# Altium schematic symbol library Connectors.SchLib: 84 symbols (part 3 of 3)
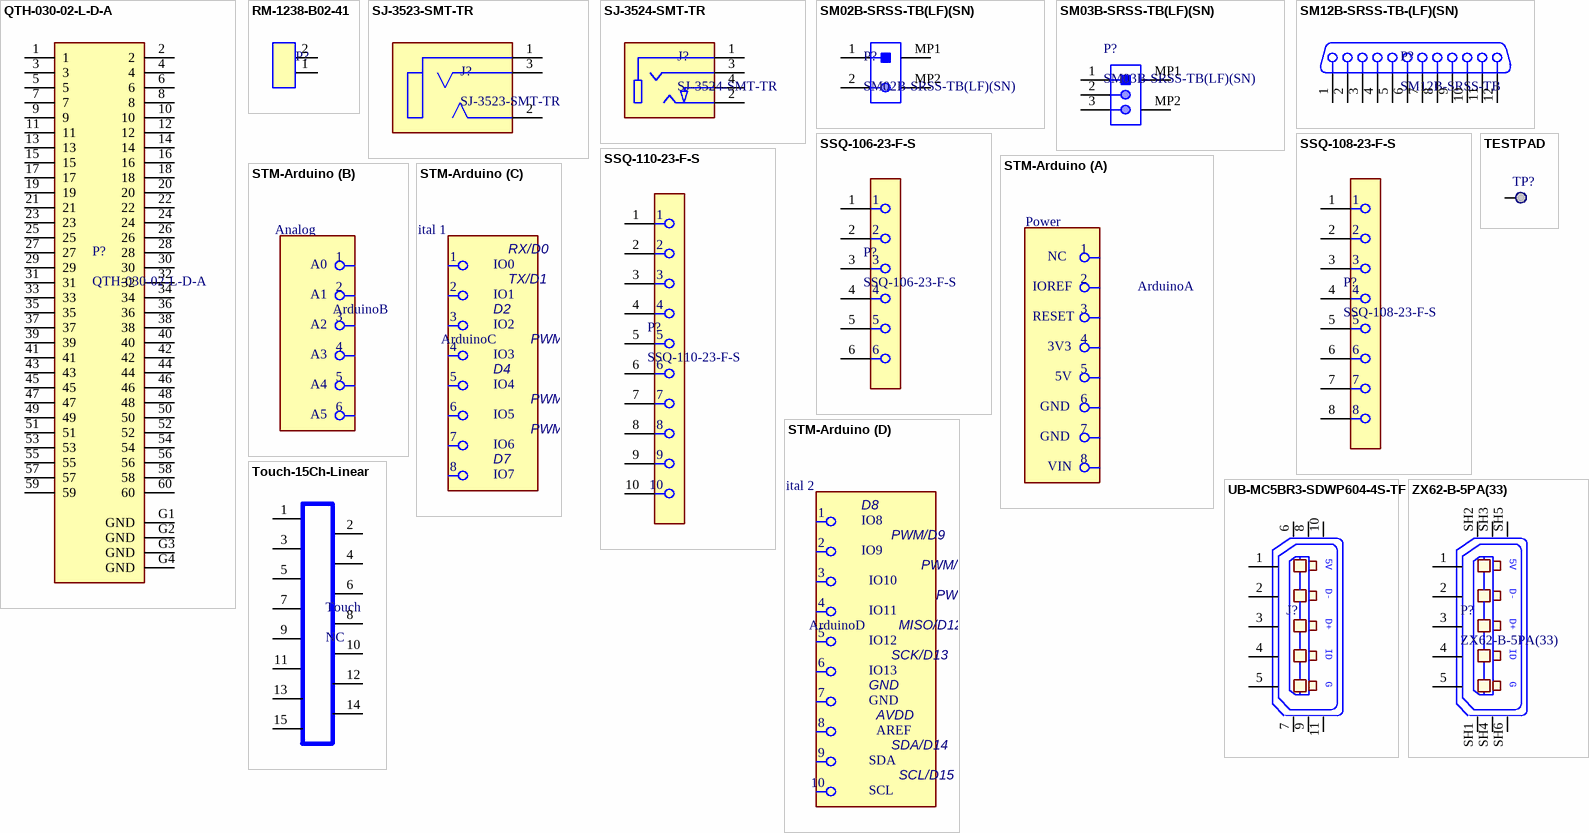
[diagram p5: symbols QTH-030-02-L-D-A to ZX62-B-5PA(33)]

## SJ-3523-SMT-TR
designator J?
3.5 mm, Stereo, Right Angle, Surface Mount (SMT), Audio Jack Connector; Manufacturer: Same Sky; Contact Resistance: 50mΩ; Current Rating: 1A; Gender: Female; Insulation Resistance: 100MΩ; Number of Conductors: 3; Number of Ports: 1; Operating Force: 29.42N; Shielding: Unshielded; Voltage Rating: 12V; Supplier: Arrow Electronics; Supplier Part Number: SJ-3523-SMT-TR; Manufacturer Part Number: SJ-3523-SMT-TR; RoHS: Compliant; Category: Audio / Video Connectors; Stock: 17000; Pricing: 1000=0.5024, 2000=0.4778, 3000=0.4729, 5000=0.4514 (USD); Color: Black; Contact Plating: Silver; Country of Origin: Mainland China; Export Control Classification Number (ECCN) Code: EAR99; Harmonized Tariff Schedule (HTS) Code: 8536.69.40.10; Introduction Date: 2012-12-10; Lifecycle Status: Production; Max Operating Temperature: 85°C; Min Operating Temperature: -25°C; Mounting Technology: Surface Mount; Pins: 3; Number of Poles: 3; Orientation: Horizontal; REACH SVHC: Yes; ComponentLink1URL: https://datasheet.octopart.com:443/SJ-3523-SMT-TR-Same-Sky-datasheet-184712297.pdf?src-supplier=Same+Sky; ComponentLink1Description: https://datasheet.octopart.com:443/SJ-3523-SMT-TR-Same-Sky-datasheet-184712297.pdf?src-supplier=Same+Sky; ComponentLink2URL: https://datasheet.octopart.com:443/SJ-3523-SMT-TR-Same-Sky-datasheet-181919261.pdf?src-supplier=Same+Sky; ComponentLink2Description: https://datasheet.octopart.com:443/SJ-3523-SMT-TR-Same-Sky-datasheet-181919261.pdf?src-supplier=Same+Sky; ComponentLink3URL: https://datasheet.octopart.com:443/SJ-3523-SMT-TR-Same-Sky-datasheet-181919260.pdf?src-supplier=Same+Sky; ComponentLink3Description: https://datasheet.octopart.com:443/SJ-3523-SMT-TR-Same-Sky-datasheet-181919260.pdf?src-supplier=Same+Sky; ComponentLink4URL: https://datasheet.octopart.com:443/SJ-3523-SMT-TR-CUI-Devices-datasheet-175925013.pdf?src-supplier=Same+Sky; ComponentLink4Description: https://datasheet.octopart.com:443/SJ-3523-SMT-TR-CUI-Devices-datasheet-175925013.pdf?src-supplier=Same+Sky; ComponentLink5URL: https://datasheet.octopart.com:443/SJ-3523-SMT-TR-CUI-Devices-datasheet-137943667.pdf?src-supplier=Same+Sky; ComponentLink5Description: https://datasheet.octopart.com:443/SJ-3523-SMT-TR-CUI-Devices-datasheet-137943667.pdf?src-supplier=Same+Sky; ComponentLink6URL: https://datasheet.octopart.com:443/SJ-3523-SMT-TR-CUI-Devices-datasheet-180438029.pdf?src-supplier=IHS; ComponentLink6Description: https://datasheet.octopart.com:443/SJ-3523-SMT-TR-CUI-Devices-datasheet-180438029.pdf?src-supplier=IHS; ComponentLink7URL: https://datasheet.octopart.com:443/SJ-3523-SMT-TR-Same-Sky-datasheet-190142034.pdf?src-supplier=element14+APAC; ComponentLink7Description: https://datasheet.octopart.com:443/SJ-3523-SMT-TR-Same-Sky-datasheet-190142034.pdf?src-supplier=element14+APAC; ComponentLink8URL: https://datasheet.octopart.com:443/SJ-3523-SMT-TR-Same-Sky-datasheet-182881268.pdf?src-supplier=Electro+Sonic; ComponentLink8Description: https://datasheet.octopart.com:443/SJ-3523-SMT-TR-Same-Sky-datasheet-182881268.pdf?src-supplier=Electro+Sonic; ComponentLink9URL: https://datasheet.octopart.com:443/SJ-3523-SMT-TR-CUI-Devices-datasheet-103113656.pdf?src-supplier=Master+Electronics; ComponentLink9Description: https://datasheet.octopart.com:443/SJ-3523-SMT-TR-CUI-Devices-datasheet-103113656.pdf?src-supplier=Master+Electronics; ComponentLink10URL: https://datasheet.octopart.com:443/SJ-3523-SMT-TR-Same-Sky-datasheet-189105583.pdf?src-supplier=Master+Electronics; ComponentLink10Description: https://datasheet.octopart.com:443/SJ-3523-SMT-TR-Same-Sky-datasheet-189105583.pdf?src-supplier=Master+Electronics; ComponentLink11URL: https://datasheet.octopart.com:443/SJ-3523-SMT-TR-Same-Sky-datasheet-182050123.pdf?src-supplier=Future+Electronics; ComponentLink11Description: https://datasheet.octopart.com:443/SJ-3523-SMT-TR-Same-Sky-datasheet-182050123.pdf?src-supplier=Future+Electronics; ComponentLink12URL: https://datasheet.octopart.com:443/SJ-3523-SMT-TR-Same-Sky-datasheet-182050122.pdf?src-supplier=Future+Electronics; ComponentLink12Description: https://datasheet.octopart.com:443/SJ-3523-SMT-TR-Same-Sky-datasheet-182050122.pdf?src-supplier=Future+Electronics; ComponentLink13URL: https://datasheet.octopart.com:443/SJ-3523-SMT-TR-CUI-Devices-datasheet-175928795.pdf?src-supplier=Future+Electronics; ComponentLink13Description: https://datasheet.octopart.com:443/SJ-3523-SMT-TR-CUI-Devices-datasheet-175928795.pdf?src-supplier=Future+Electronics; ComponentLink14URL: https://datasheet.octopart.com:443/SJ-3523-SMT-TR-CUI-Devices-datasheet-175923651.pdf?src-supplier=Future+Electronics; ComponentLink14Description: https://datasheet.octopart.com:443/SJ-3523-SMT-TR-CUI-Devices-datasheet-175923651.pdf?src-supplier=Future+Electronics; ComponentLink15URL: https://datasheet.octopart.com:443/SJ-3523-SMT-TR-CUI-Devices-datasheet-152599919.pdf?src-supplier=Future+Electronics; ComponentLink15Description: https://datasheet.octopart.com:443/SJ-3523-SMT-TR-CUI-Devices-datasheet-152599919.pdf?src-supplier=Future+Electronics; ComponentLink16URL: https://datasheet.octopart.com:443/SJ-3523-SMT-TR-CUI-Devices-datasheet-137916561.pdf?src-supplier=Future+Electronics; ComponentLink16Description: https://datasheet.octopart.com:443/SJ-3523-SMT-TR-CUI-Devices-datasheet-137916561.pdf?src-supplier=Future+Electronics; ComponentLink17URL: https://datasheet.octopart.com:443/SJ-3523-SMT-TR-CUI-Devices-datasheet-175927840.pdf?src-supplier=CUI+Devices+SCT; ComponentLink17Description: https://datasheet.octopart.com:443/SJ-3523-SMT-TR-CUI-Devices-datasheet-175927840.pdf?src-supplier=CUI+Devices+SCT; ComponentLink18URL: https://datasheet.octopart.com:443/SJ-3523-SMT-TR-CUI-Devices-datasheet-142371491.pdf?src-supplier=CUI+Devices+SCT; ComponentLink18Description: https://datasheet.octopart.com:443/SJ-3523-SMT-TR-CUI-Devices-datasheet-142371491.pdf?src-supplier=CUI+Devices+SCT; ComponentLink19URL: https://octopart.com:443/opatz8j6/c1?t=3PixFKwt_1lrE2SnjMso3c4BVeObRI8f6D5FxVl1cXWOTqek18AVYC7IZ1FL1637bT5PFzlVrdQdUmFeX7jbVRN48ywcgzzbU4FW3uDxr7BRmLvuVaEu9_SOHG86Z2j6sJM2TfYS5MNOuxudwacUDrD9nJER0h5-StWa_e9lHCJkn4gEHbM78ErUpa8D0epOE2LnfBge76ETJW9h0B65ohVP6OeqmKQk7yYCczWU6-DAvtWE5Vj2sPgk-AY3lGde1n2RdIulmK3YGP0vhvrCbaCONCVwzYZnvHBIWPko0TsAK1j6MxTwAX73VKRztHuM_uh-uXI3fMt71fqmTGC1wZwLSji6FG01zr8jaIqzOug&src-supplier=Compliance+Statements; ComponentLink19Description: https://octopart.com:443/opatz8j6/c1?t=3PixFKwt_1lrE2SnjMso3c4BVeObRI8f6D5FxVl1cXWOTqek18AVYC7IZ1FL1637bT5PFzlVrdQdUmFeX7jbVRN48ywcgzzbU4FW3uDxr7BRmLvuVaEu9_SOHG86Z2j6sJM2TfYS5MNOuxudwacUDrD9nJER0h5-StWa_e9lHCJkn4gEHbM78ErUpa8D0epOE2LnfBge76ETJW9h0B65ohVP6OeqmKQk7yYCczWU6-DAvtWE5Vj2sPgk-AY3lGde1n2RdIulmK3YGP0vhvrCbaCONCVwzYZnvHBIWPko0TsAK1j6MxTwAX73VKRztHuM_uh-uXI3fMt71fqmTGC1wZwLSji6FG01zr8jaIqzOug&src-supplier=Compliance+Statements; ComponentLink20URL: https://octopart.com:443/opatz8j6/c1?t=ai7bXhnjmMBEpxF7yOEe6Xfv4mqwzw6wzAr3FSSG_3L3nF4IVUtqvsc9-8wCROT2wlq_fvywwanVu2GiQjSepz1JcSnrUWeDau0KJCpCqgyC1PUQ5i5k8IPngeY-vrE9FIifCN1ZpQ9b9hR00iu6UqlxbnO2OPF9P3hNaV5UAxJnOYiIPQNrQ7LSnV0SCobpYMgazKQgjHUtbwXbf7UEksvvmAPVYT0hoNr9wbl4YyxwtjtJTa7Jru0ElOLW14YgX1KlK2bSGAxYZcsGXg3tK9AnDuSoAYeagsaPozgu3NzMuNInD-xefX6F9jKARGROwkgVkAuZmxbndG4XKsEodvgDSovgmtUTiMAlIkDOXlQ&src-supplier=Compliance+Statements; ComponentLink20Description: https://octopart.com:443/opatz8j6/c1?t=ai7bXhnjmMBEpxF7yOEe6Xfv4mqwzw6wzAr3FSSG_3L3nF4IVUtqvsc9-8wCROT2wlq_fvywwanVu2GiQjSepz1JcSnrUWeDau0KJCpCqgyC1PUQ5i5k8IPngeY-vrE9FIifCN1ZpQ9b9hR00iu6UqlxbnO2OPF9P3hNaV5UAxJnOYiIPQNrQ7LSnV0SCobpYMgazKQgjHUtbwXbf7UEksvvmAPVYT0hoNr9wbl4YyxwtjtJTa7Jru0ElOLW14YgX1KlK2bSGAxYZcsGXg3tK9AnDuSoAYeagsaPozgu3NzMuNInD-xefX6F9jKARGROwkgVkAuZmxbndG4XKsEodvgDSovgmtUTiMAlIkDOXlQ&src-supplier=Compliance+Statements; ComponentLink21URL: https://octopart.com:443/opatz8j6/c1?t=B7x7IRfzV-wjzKXnVKaZ_nyZReDvgSS9ZWZ3X0VROBqDI4TWdDh2uPhp-_k8ZDAd-a7cutHDCjIuprJYcIAX8HbML_1LLFmwoDhfwCIij1Ht6x5fbBwApeOy_rZLR9YLIQomFhzjtjb_6IkdnlL8Xc8PsE3jxQYBZ9lPFEq5WREXMNDXaRSifi2TzRow5T1NrCCQuzyCqgbAjFR1fYN2QeTNR9CTAQhGTvc5Z-xQUKo4cjjfbVQfyZZbQ_JJC8dp5o6XWgtLM0OH6Ju8R0luesl__RdKFgqeb5UUKtjR1jWbVXI1fKc4EynbZApsOWPsuvQMB3BD9kjvx5Eimw2di4EsSZnSi-CxKI1y-Q&src-supplier=Compliance+Statements; ComponentLink21Description: https://octopart.com:443/opatz8j6/c1?t=B7x7IRfzV-wjzKXnVKaZ_nyZReDvgSS9ZWZ3X0VROBqDI4TWdDh2uPhp-_k8ZDAd-a7cutHDCjIuprJYcIAX8HbML_1LLFmwoDhfwCIij1Ht6x5fbBwApeOy_rZLR9YLIQomFhzjtjb_6IkdnlL8Xc8PsE3jxQYBZ9lPFEq5WREXMNDXaRSifi2TzRow5T1NrCCQuzyCqgbAjFR1fYN2QeTNR9CTAQhGTvc5Z-xQUKo4cjjfbVQfyZZbQ_JJC8dp5o6XWgtLM0OH6Ju8R0luesl__RdKFgqeb5UUKtjR1jWbVXI1fKc4EynbZApsOWPsuvQMB3BD9kjvx5Eimw2di4EsSZnSi-CxKI1y-Q&src-supplier=Compliance+Statements; ComponentLink22URL: https://octopart.com:443/opatz8j6/c1?t=8GXU5cg_WYHLZTi-wsh0RP4oeS6gjV8h7QEKpypclDDKDNmCFT9u-iJkEwsIVIBO_f2OcH2onM5bKDpSwTEJ6zuXyy3b76HNnJkD_bJ5ppUfrqsRrMzP3E8PjDYvGTRlMSNw-Rk6GN0xh1kI60paopRK7jwd7qehhzTFTqq4tHmxqxekueD6r62VKpcWMn-OJA9wnLMtl-nR3zJ27_MNWNF9abV9EfP_7lvvVAzPv42-T6kH9yOf_FtpH6pLHEBJGap6uB2mhL64re8hSj4edA9lC6__-6ZWBO968_lAqt0vaCe3ilro4z3M1cZ9JnqJVq4ZzJCaPK1bjTAbrsqY5CF0XyB4oqUSV3_C60aT0Rc&src-supplier=Compliance+Statements; ComponentLink22Description: https://octopart.com:443/opatz8j6/c1?t=8GXU5cg_WYHLZTi-wsh0RP4oeS6gjV8h7QEKpypclDDKDNmCFT9u-iJkEwsIVIBO_f2OcH2onM5bKDpSwTEJ6zuXyy3b76HNnJkD_bJ5ppUfrqsRrMzP3E8PjDYvGTRlMSNw-Rk6GN0xh1kI60paopRK7jwd7qehhzTFTqq4tHmxqxekueD6r62VKpcWMn-OJA9wnLMtl-nR3zJ27_MNWNF9abV9EfP_7lvvVAzPv42-T6kH9yOf_FtpH6pLHEBJGap6uB2mhL64re8hSj4edA9lC6__-6ZWBO968_lAqt0vaCe3ilro4z3M1cZ9JnqJVq4ZzJCaPK1bjTAbrsqY5CF0XyB4oqUSV3_C60aT0Rc&src-supplier=Compliance+Statements; ComponentLink23URL: https://octopart.com:443/opatz8j6/c1?t=TeXrKz3Cft8xP10k9JrPdGv8P6l8dpPWA2RiV9wojFyZRPQ3tq_r5WAoiJ170aMYd1pqGePI8e9nEESvrP7LP1ZpEuf9FTtUsyS8PbsPPCSxT5WrgWv9g5gmygGHaoSQyYElHyciEigIP3R9RXj2cNeu5oYdq0yTK9j3df6L7iFe_2nUIN8GzuOcWfdvS38r2PKr06f8asKTrd_DlILqQpWRq4PSe4ihVLhpxBiuGFpatrRE3ur9Pj9gR6pLNsKN1zajlSqkyRt4yYeSq2xXA2Vf_XOxsVaJxi0XE58JIYo4t_sSfAI1Th81qnhgWs2lRXur0fLlQs5AoiDslqWTBcDhwQA0WJGDzWcSO-0rYfU&src-supplier=Compliance+Statements; ComponentLink23Description: https://octopart.com:443/opatz8j6/c1?t=TeXrKz3Cft8xP10k9JrPdGv8P6l8dpPWA2RiV9wojFyZRPQ3tq_r5WAoiJ170aMYd1pqGePI8e9nEESvrP7LP1ZpEuf9FTtUsyS8PbsPPCSxT5WrgWv9g5gmygGHaoSQyYElHyciEigIP3R9RXj2cNeu5oYdq0yTK9j3df6L7iFe_2nUIN8GzuOcWfdvS38r2PKr06f8asKTrd_DlILqQpWRq4PSe4ihVLhpxBiuGFpatrRE3ur9Pj9gR6pLNsKN1zajlSqkyRt4yYeSq2xXA2Vf_XOxsVaJxi0XE58JIYo4t_sSfAI1Th81qnhgWs2lRXur0fLlQs5AoiDslqWTBcDhwQA0WJGDzWcSO-0rYfU&src-supplier=Compliance+Statements; ComponentLink24URL: https://octopart.com:443/opatz8j6/c1?t=y_QQS9kX6p_jCXN32QY1C5YzrZIcxfXP-SWb-3wJ8iwhBTF_4rbd5a2oUK2u70O1M5s0WArmkCu-Jj3oA3Vbwu3jN45YH29CCcigLqRQIRlrnmxQjFkAdofCmwaRxElerDPcSmY_PBwpIpSTAgnVLOogN9zxN-gEMVmheJREUIiO8oTcfWEcVnxLkezimMHsqfleJJAa99efSn4GXHtiUeKguAtswDBQypLuq24NT8Fgji51Ir_lslOouqLorFR0a0okoN8JGq5aw67lppRbXlwNZ-c6aK5OHR9eZVUJRtN1XA97ZOw_tAT74A0fu_g4egJ53kBiBM00aBv__mv44pKfViCW_iPZbcurxw&src-supplier=Compliance+Statements; ComponentLink24Description: https://octopart.com:443/opatz8j6/c1?t=y_QQS9kX6p_jCXN32QY1C5YzrZIcxfXP-SWb-3wJ8iwhBTF_4rbd5a2oUK2u70O1M5s0WArmkCu-Jj3oA3Vbwu3jN45YH29CCcigLqRQIRlrnmxQjFkAdofCmwaRxElerDPcSmY_PBwpIpSTAgnVLOogN9zxN-gEMVmheJREUIiO8oTcfWEcVnxLkezimMHsqfleJJAa99efSn4GXHtiUeKguAtswDBQypLuq24NT8Fgji51Ir_lslOouqLorFR0a0okoN8JGq5aw67lppRbXlwNZ-c6aK5OHR9eZVUJRtN1XA97ZOw_tAT74A0fu_g4egJ53kBiBM00aBv__mv44pKfViCW_iPZbcurxw&src-supplier=Compliance+Statements
footprint CUI_SJ-3523-SMT-TR
pins: 1 SLEEVE, 2 TIP, 3 RING

## SJ-3524-SMT-TR
designator J?
3.5 mm, Stereo, Right Angle, Surface Mount (SMT), Audio Jack Connector; Manufacturer: Same Sky; Contact Resistance: 50mΩ; Current Rating: 1A; Dielectric Material: Polyamide; Gender: Female; Insulation Resistance: 100MΩ; Number of Conductors: 3; Number of Ports: 1; Operating Force: 29.42N; Shielding: Unshielded; Voltage Rating: 12V; Supplier: Arrow Electronics; Supplier Part Number: SJ-3524-SMT-TR; Manufacturer Part Number: SJ-3524-SMT-TR; RoHS: Compliant; Category: Audio / Video Connectors; Stock: 47000; Pricing: 1000=0.4711, 2000=0.4487 (USD); Color: Black; Contact Plating: Silver; Country of Origin: Mainland China; Export Control Classification Number (ECCN) Code: EAR99; Harmonized Tariff Schedule (HTS) Code: 8536.69.40.10; Introduction Date: 2012-12-10; Lifecycle Status: Production; Max Operating Temperature: 85°C; Min Operating Temperature: -25°C; Mounting Technology: Surface Mount; Pins: 3; Number of Poles: 3; Orientation: Horizontal; REACH SVHC: Yes; ComponentLink1URL: https://datasheet.octopart.com:443/SJ-3524-SMT-TR-Same-Sky-datasheet-184712297.pdf?src-supplier=Same+Sky; ComponentLink1Description: https://datasheet.octopart.com:443/SJ-3524-SMT-TR-Same-Sky-datasheet-184712297.pdf?src-supplier=Same+Sky; ComponentLink2URL: https://datasheet.octopart.com:443/SJ-3524-SMT-TR-Same-Sky-datasheet-181919261.pdf?src-supplier=Same+Sky; ComponentLink2Description: https://datasheet.octopart.com:443/SJ-3524-SMT-TR-Same-Sky-datasheet-181919261.pdf?src-supplier=Same+Sky; ComponentLink3URL: https://datasheet.octopart.com:443/SJ-3524-SMT-TR-Same-Sky-datasheet-181919260.pdf?src-supplier=Same+Sky; ComponentLink3Description: https://datasheet.octopart.com:443/SJ-3524-SMT-TR-Same-Sky-datasheet-181919260.pdf?src-supplier=Same+Sky; ComponentLink4URL: https://datasheet.octopart.com:443/SJ-3524-SMT-TR-CUI-Devices-datasheet-175925013.pdf?src-supplier=Same+Sky; ComponentLink4Description: https://datasheet.octopart.com:443/SJ-3524-SMT-TR-CUI-Devices-datasheet-175925013.pdf?src-supplier=Same+Sky; ComponentLink5URL: https://datasheet.octopart.com:443/SJ-3524-SMT-TR-CUI-Devices-datasheet-137943667.pdf?src-supplier=Same+Sky; ComponentLink5Description: https://datasheet.octopart.com:443/SJ-3524-SMT-TR-CUI-Devices-datasheet-137943667.pdf?src-supplier=Same+Sky; ComponentLink6URL: https://datasheet.octopart.com:443/SJ-3524-SMT-TR-CUI-Devices-datasheet-180438029.pdf?src-supplier=IHS; ComponentLink6Description: https://datasheet.octopart.com:443/SJ-3524-SMT-TR-CUI-Devices-datasheet-180438029.pdf?src-supplier=IHS; ComponentLink7URL: https://datasheet.octopart.com:443/SJ-3524-SMT-TR-Same-Sky-datasheet-190142034.pdf?src-supplier=element14+APAC; ComponentLink7Description: https://datasheet.octopart.com:443/SJ-3524-SMT-TR-Same-Sky-datasheet-190142034.pdf?src-supplier=element14+APAC; ComponentLink8URL: https://datasheet.octopart.com:443/SJ-3524-SMT-TR-Same-Sky-datasheet-182881268.pdf?src-supplier=Electro+Sonic; ComponentLink8Description: https://datasheet.octopart.com:443/SJ-3524-SMT-TR-Same-Sky-datasheet-182881268.pdf?src-supplier=Electro+Sonic; ComponentLink9URL: https://datasheet.octopart.com:443/SJ-3524-SMT-TR-CUI-Devices-datasheet-103113656.pdf?src-supplier=Master+Electronics; ComponentLink9Description: https://datasheet.octopart.com:443/SJ-3524-SMT-TR-CUI-Devices-datasheet-103113656.pdf?src-supplier=Master+Electronics; ComponentLink10URL: https://datasheet.octopart.com:443/SJ-3524-SMT-TR-Same-Sky-datasheet-189105583.pdf?src-supplier=Master+Electronics; ComponentLink10Description: https://datasheet.octopart.com:443/SJ-3524-SMT-TR-Same-Sky-datasheet-189105583.pdf?src-supplier=Master+Electronics; ComponentLink11URL: https://datasheet.octopart.com:443/SJ-3524-SMT-TR-Same-Sky-datasheet-182050123.pdf?src-supplier=Future+Electronics; ComponentLink11Description: https://datasheet.octopart.com:443/SJ-3524-SMT-TR-Same-Sky-datasheet-182050123.pdf?src-supplier=Future+Electronics; ComponentLink12URL: https://datasheet.octopart.com:443/SJ-3524-SMT-TR-Same-Sky-datasheet-182050122.pdf?src-supplier=Future+Electronics; ComponentLink12Description: https://datasheet.octopart.com:443/SJ-3524-SMT-TR-Same-Sky-datasheet-182050122.pdf?src-supplier=Future+Electronics; ComponentLink13URL: https://datasheet.octopart.com:443/SJ-3524-SMT-TR-CUI-Devices-datasheet-175928795.pdf?src-supplier=Future+Electronics; ComponentLink13Description: https://datasheet.octopart.com:443/SJ-3524-SMT-TR-CUI-Devices-datasheet-175928795.pdf?src-supplier=Future+Electronics; ComponentLink14URL: https://datasheet.octopart.com:443/SJ-3524-SMT-TR-CUI-Devices-datasheet-175923651.pdf?src-supplier=Future+Electronics; ComponentLink14Description: https://datasheet.octopart.com:443/SJ-3524-SMT-TR-CUI-Devices-datasheet-175923651.pdf?src-supplier=Future+Electronics; ComponentLink15URL: https://datasheet.octopart.com:443/SJ-3524-SMT-TR-CUI-Devices-datasheet-152599919.pdf?src-supplier=Future+Electronics; ComponentLink15Description: https://datasheet.octopart.com:443/SJ-3524-SMT-TR-CUI-Devices-datasheet-152599919.pdf?src-supplier=Future+Electronics; ComponentLink16URL: https://datasheet.octopart.com:443/SJ-3524-SMT-TR-CUI-Devices-datasheet-137916561.pdf?src-supplier=Future+Electronics; ComponentLink16Description: https://datasheet.octopart.com:443/SJ-3524-SMT-TR-CUI-Devices-datasheet-137916561.pdf?src-supplier=Future+Electronics; ComponentLink17URL: https://datasheet.octopart.com:443/SJ-3524-SMT-TR-CUI-Devices-datasheet-175927840.pdf?src-supplier=CUI+Devices+SCT; ComponentLink17Description: https://datasheet.octopart.com:443/SJ-3524-SMT-TR-CUI-Devices-datasheet-175927840.pdf?src-supplier=CUI+Devices+SCT; ComponentLink18URL: https://datasheet.octopart.com:443/SJ-3524-SMT-TR-CUI-Devices-datasheet-142371491.pdf?src-supplier=CUI+Devices+SCT; ComponentLink18Description: https://datasheet.octopart.com:443/SJ-3524-SMT-TR-CUI-Devices-datasheet-142371491.pdf?src-supplier=CUI+Devices+SCT; ComponentLink19URL: https://octopart.com:443/opatz8j6/c1?t=yOFwSlno1Gy1iEOHUbjo7Ybbu6J4ZPgxNJLPD9WwT1tuzUC7dicjZt5CxzDyT98LCQkXh1Z7UZdCw_kCJWuk2m-3nxPEp9uHTSaEhHQx0tFXUet7SrOs3pKHwsfWMBcXMGjcj53MXqaEKPkPUIN9Fc4-WJVpP8trluSCFTu0aP0U4RMF8rDJ6TH0nKJGEWkpju7U153RjrP1QVlBspX-YnttXTji0MhyP9QRwTSaZM99RIR5L42SToAz-Uv17BkRGCoaVvGGPD7q0-sxEm0lYoF0cP7fTKlBUQuIOXt0goN7CIXQc01xs8PxfP7sgF0PbovItJXbpPUXsTVa0ZiTBaamxwgmu4JYPPQNjajSQrI&src-supplier=Compliance+Statements; ComponentLink19Description: https://octopart.com:443/opatz8j6/c1?t=yOFwSlno1Gy1iEOHUbjo7Ybbu6J4ZPgxNJLPD9WwT1tuzUC7dicjZt5CxzDyT98LCQkXh1Z7UZdCw_kCJWuk2m-3nxPEp9uHTSaEhHQx0tFXUet7SrOs3pKHwsfWMBcXMGjcj53MXqaEKPkPUIN9Fc4-WJVpP8trluSCFTu0aP0U4RMF8rDJ6TH0nKJGEWkpju7U153RjrP1QVlBspX-YnttXTji0MhyP9QRwTSaZM99RIR5L42SToAz-Uv17BkRGCoaVvGGPD7q0-sxEm0lYoF0cP7fTKlBUQuIOXt0goN7CIXQc01xs8PxfP7sgF0PbovItJXbpPUXsTVa0ZiTBaamxwgmu4JYPPQNjajSQrI&src-supplier=Compliance+Statements; ComponentLink20URL: https://octopart.com:443/opatz8j6/c1?t=uNnoKwVeX1LhEEB_zUFRBeAQYQu9ISBy-W7tOzOc_RmfmrKW4xcZzJ2WewKYX0Xxl8ZMH72g5TeOICaMyFaurglqloMkiwvReWcyCPwlqY7rX5OUsZTnpZgbxH-rbVORqnTJc9QkSNRuEEipQ_cWPY3tFRvbjob5BKPGVDgsMPtYMVG3AqIwWCrXjWkPgyShsBkOqPWCXA9kmBlujFt1U8CxI7ia0jImbIaXawE_Ac6Hi-1vS-TMQ1Dh-1KeH7e-W8-pNc-CfDxYtDM6IKgSYlZXdWKhovzLQ6WUTkzmtPzMFlvE-aA4whwmiapQxsV_GDNHfkwfqsAKfucZvV7rm6dsVKmo7vy64-7KX4u71T8&src-supplier=Compliance+Statements; ComponentLink20Description: https://octopart.com:443/opatz8j6/c1?t=uNnoKwVeX1LhEEB_zUFRBeAQYQu9ISBy-W7tOzOc_RmfmrKW4xcZzJ2WewKYX0Xxl8ZMH72g5TeOICaMyFaurglqloMkiwvReWcyCPwlqY7rX5OUsZTnpZgbxH-rbVORqnTJc9QkSNRuEEipQ_cWPY3tFRvbjob5BKPGVDgsMPtYMVG3AqIwWCrXjWkPgyShsBkOqPWCXA9kmBlujFt1U8CxI7ia0jImbIaXawE_Ac6Hi-1vS-TMQ1Dh-1KeH7e-W8-pNc-CfDxYtDM6IKgSYlZXdWKhovzLQ6WUTkzmtPzMFlvE-aA4whwmiapQxsV_GDNHfkwfqsAKfucZvV7rm6dsVKmo7vy64-7KX4u71T8&src-supplier=Compliance+Statements; ComponentLink21URL: https://octopart.com:443/opatz8j6/c1?t=ifJJE652zqP2O_ako0sjKkPjbVH-RKSA3oWyLPwpx7AGqBRqqRaws_KobTHvtlUT6BhZ4FsjiSRRxOG3z-99eNpPROe0lXTpMnSMSIyQd3v7VT7rvEIDvJVXRxVK31rmq_ZM0nMITuXtUEM92FCn0xV9CSi-yd2F7PjQeDG55AAa1FD1qAUmfDDcOGbXdopGu2ZKrEXS6JGKSNIb3ZxRLX0BPxEZXLi0G8oYg8riRyYA8tuAo7vpONLU4Ptt47qfZov3OnZ-KBuk4MKSt_6mkNmiobRVspD_MYGe3V3Wc0korOd17zoqg9HPFP_tlaUpMhpdajr1c32FGMLRBpZwmy3fND6deeqA-aDt3Q&src-supplier=Compliance+Statements; ComponentLink21Description: https://octopart.com:443/opatz8j6/c1?t=ifJJE652zqP2O_ako0sjKkPjbVH-RKSA3oWyLPwpx7AGqBRqqRaws_KobTHvtlUT6BhZ4FsjiSRRxOG3z-99eNpPROe0lXTpMnSMSIyQd3v7VT7rvEIDvJVXRxVK31rmq_ZM0nMITuXtUEM92FCn0xV9CSi-yd2F7PjQeDG55AAa1FD1qAUmfDDcOGbXdopGu2ZKrEXS6JGKSNIb3ZxRLX0BPxEZXLi0G8oYg8riRyYA8tuAo7vpONLU4Ptt47qfZov3OnZ-KBuk4MKSt_6mkNmiobRVspD_MYGe3V3Wc0korOd17zoqg9HPFP_tlaUpMhpdajr1c32FGMLRBpZwmy3fND6deeqA-aDt3Q&src-supplier=Compliance+Statements; ComponentLink22URL: https://octopart.com:443/opatz8j6/c1?t=OlPZvnmD0Qu8C448fjYe0K0Kc-C-IgiETp7wZgIqCMbK7-ZEtdN95CWvQAro5kVhTKONd1TuLyOfE2fx07vEiRfR333rqqBcVtgXmKdld6c_H5IIvA-n3pfFczIT6T7ud_kmK4KA7ja_lEvWnYgCuHy2HbY-DlLpUkXA5dSwVni4TrxId0wRpUcvUDY4XANDdq3sSQlXLTXA17OK0prWGGPyfqGBCwm4jb2XLdlJU_H2C0MTMR-k7B1eFMLlP_jj6b_eepH9CK-diYOZS3zGhwW75BGHDWrrSxG0_yLe6_fK7nwGYOVlv8udl5HjRgrK-JgNyLaCw1M03UqgHIA3l5eeqAZyn8NCfUGhs2LeJ_g&src-supplier=Compliance+Statements; ComponentLink22Description: https://octopart.com:443/opatz8j6/c1?t=OlPZvnmD0Qu8C448fjYe0K0Kc-C-IgiETp7wZgIqCMbK7-ZEtdN95CWvQAro5kVhTKONd1TuLyOfE2fx07vEiRfR333rqqBcVtgXmKdld6c_H5IIvA-n3pfFczIT6T7ud_kmK4KA7ja_lEvWnYgCuHy2HbY-DlLpUkXA5dSwVni4TrxId0wRpUcvUDY4XANDdq3sSQlXLTXA17OK0prWGGPyfqGBCwm4jb2XLdlJU_H2C0MTMR-k7B1eFMLlP_jj6b_eepH9CK-diYOZS3zGhwW75BGHDWrrSxG0_yLe6_fK7nwGYOVlv8udl5HjRgrK-JgNyLaCw1M03UqgHIA3l5eeqAZyn8NCfUGhs2LeJ_g&src-supplier=Compliance+Statements; ComponentLink23URL: https://octopart.com:443/opatz8j6/c1?t=re6L0_J8zSZPToy6tpwx8l2wvMJ_6iwUrG9UMycMvYS4AZ0qpHcVyzN03WPTWB0GYwUQB7g-T9LPfCeZzs0gbpLMUlLQX9vSKne3huICVnNF1JoviP1YBHicOeml7NfGyf97JaJe1L7j36TzXJEGtAasajcJr99hVq6sJgO3gu5mTFKTAOykhX8RQB6genJ_usQ_jzteFW4TFZ4Ga-UfVmWXy5TMEIROcSF1KS-VtRtI7Yo2q8FDTaIv5YMKNCqZ-FGEnggVhbaKUaYX54hog2aMn9PAzFmCAE7EcdTY-PGhnyHaYGA6jJhEI-WasJJqIa3S6G8I658C8exCDxtd8PPCi791s4K7lsR10aJTblc&src-supplier=Compliance+Statements; ComponentLink23Description: https://octopart.com:443/opatz8j6/c1?t=re6L0_J8zSZPToy6tpwx8l2wvMJ_6iwUrG9UMycMvYS4AZ0qpHcVyzN03WPTWB0GYwUQB7g-T9LPfCeZzs0gbpLMUlLQX9vSKne3huICVnNF1JoviP1YBHicOeml7NfGyf97JaJe1L7j36TzXJEGtAasajcJr99hVq6sJgO3gu5mTFKTAOykhX8RQB6genJ_usQ_jzteFW4TFZ4Ga-UfVmWXy5TMEIROcSF1KS-VtRtI7Yo2q8FDTaIv5YMKNCqZ-FGEnggVhbaKUaYX54hog2aMn9PAzFmCAE7EcdTY-PGhnyHaYGA6jJhEI-WasJJqIa3S6G8I658C8exCDxtd8PPCi791s4K7lsR10aJTblc&src-supplier=Compliance+Statements; ComponentLink24URL: https://octopart.com:443/opatz8j6/c1?t=Q1_HOAH1xyG3mQbHQ3hbWWZ903fx3-aZa9LWKWAmG3yaOw2Rx7JstO0Zbr5BkutBpC4yolmNsUCdh5ZpX4HWCXJTe5aGeb6WInJWQRoXTJNPfJf6G-wn8tFgxIR5eTdawx9GKLHOL9uUFC0556nvHOLn05E1ovRt-kI6EuOCzRHYmCM7qx1dYgwm-Yww5-6lzXFDrXcw-CNYPcVEFfW7xMn3d_ekgPK_1hic_cC7g8eY1HGlynCM8K2S61LCaMcRl0y_5sSyCXROuxlU9_lpp8tO7SIIYZ-nYtOmOxkbUK0v5C7imYX5HjWyL0FO4r-z2jP3nGaIX88Qofuaefiipyhb6cGXMMgjpWLDKw&src-supplier=Compliance+Statements; ComponentLink24Description: https://octopart.com:443/opatz8j6/c1?t=Q1_HOAH1xyG3mQbHQ3hbWWZ903fx3-aZa9LWKWAmG3yaOw2Rx7JstO0Zbr5BkutBpC4yolmNsUCdh5ZpX4HWCXJTe5aGeb6WInJWQRoXTJNPfJf6G-wn8tFgxIR5eTdawx9GKLHOL9uUFC0556nvHOLn05E1ovRt-kI6EuOCzRHYmCM7qx1dYgwm-Yww5-6lzXFDrXcw-CNYPcVEFfW7xMn3d_ekgPK_1hic_cC7g8eY1HGlynCM8K2S61LCaMcRl0y_5sSyCXROuxlU9_lpp8tO7SIIYZ-nYtOmOxkbUK0v5C7imYX5HjWyL0FO4r-z2jP3nGaIX88Qofuaefiipyhb6cGXMMgjpWLDKw&src-supplier=Compliance+Statements
footprint CUI_SJ-3524-SMT
pins: 1, 2, 3, 4

## SM02B-SRSS-TB(LF)(SN)
designator P?
Connector Header, Side Entry, SR Series, 2 Position, 1.00mm, 50V, Surface Mount, Tin, Natural; Manufacturer: JST; Connector Type: Male Pin; Contact Resistance: 40mΩ; Current Rating: 1A; Dielectric Material: Polyamide; Insulation Resistance: 100MΩ; Number of Contacts: 2; Pitch: 1mm; Supplier: RS; Supplier Part Number: 5151490P; Manufacturer Part Number: SM02B-SRSS-TB(LF)(SN); RoHS: Compliant; Category: Headers and Wire Housings; Stock: 2610; Pricing: 10=0.425, 50=0.405, 250=0.331, 500=0.279, 1000=0.239 (EUR); China RoHS: Compliant; Color: Natural; Contact Gender: Male; Contact Material: Copper, Tin; Contact Plating: Tin; Country of Origin: Mainland China; Depth: 4.95mm; Export Control Classification Number (ECCN) Code: EAR99; Flammability Rating: UL94 V-0; Height: 2.9mm; Harmonized Tariff Schedule (HTS) Code: 8536.69.40.40; Introduction Date: 2009-02-11; Lead Free: Lead Free; Lead Pitch: 1mm; Length: 4mm; Lifecycle Status: Production; Material: Polyamide; Max Current Rating: 1A; Max Operating Temperature: 85°C; Max Voltage Rating (AC): 50V; Min Operating Temperature: -25°C; Mounting Technology: Surface Mount; Pins: 2; Number of Positions: 2; Number of Rows: 1; Packaging: Cut Tape; REACH SVHC: Yes; Schedule B: 8536694040; Terminal Pitch: 1mm; Termination: Solder; Voltage Rating: 50V; Voltage Rating (AC): 50V; ComponentLink1URL: https://datasheet.octopart.com:443/SM02B-SRSS-TB%28LF%29%28SN%29-JST-datasheet-12513377.pdf?src-supplier=Upverter; ComponentLink1Description: https://datasheet.octopart.com:443/SM02B-SRSS-TB%28LF%29%28SN%29-JST-datasheet-12513377.pdf?src-supplier=Upverter; ComponentLink2URL: https://datasheet.octopart.com:443/SM02B-SRSS-TB%28LF%29%28SN%29-JST-datasheet-152738602.pdf?src-supplier=Upverter; ComponentLink2Description: https://datasheet.octopart.com:443/SM02B-SRSS-TB%28LF%29%28SN%29-JST-datasheet-152738602.pdf?src-supplier=Upverter; ComponentLink3URL: https://datasheet.octopart.com:443/SM02B-SRSS-TB-%28LF%29%28SN%29-JST-datasheet-5322443.pdf?src-supplier=element14+APAC; ComponentLink3Description: https://datasheet.octopart.com:443/SM02B-SRSS-TB-%28LF%29%28SN%29-JST-datasheet-5322443.pdf?src-supplier=element14+APAC; ComponentLink4URL: https://datasheet.octopart.com:443/SM02B-SRSS-TB-%28LF%29%28SN%29-JST-datasheet-65849987.pdf?src-supplier=element14+APAC; ComponentLink4Description: https://datasheet.octopart.com:443/SM02B-SRSS-TB-%28LF%29%28SN%29-JST-datasheet-65849987.pdf?src-supplier=element14+APAC; ComponentLink5URL: https://datasheet.octopart.com:443/SM02B-SRSS-TB%28LF%29%28SN%29-JST-datasheet-12489618.pdf?src-supplier=Future+Electronics; ComponentLink5Description: https://datasheet.octopart.com:443/SM02B-SRSS-TB%28LF%29%28SN%29-JST-datasheet-12489618.pdf?src-supplier=Future+Electronics; ComponentLink6URL: https://datasheet.octopart.com:443/SM02B-SRSS-TB%28LF%29%28SN%29-JST-datasheet-12520110.pdf?src-supplier=Future+Electronics; ComponentLink6Description: https://datasheet.octopart.com:443/SM02B-SRSS-TB%28LF%29%28SN%29-JST-datasheet-12520110.pdf?src-supplier=Future+Electronics; ComponentLink7URL: https://datasheet.octopart.com:443/SM02B-SRSS-TB%28LF%29%28SN%29-JST-datasheet-8330955.pdf?src-supplier=Future+Electronics; ComponentLink7Description: https://datasheet.octopart.com:443/SM02B-SRSS-TB%28LF%29%28SN%29-JST-datasheet-8330955.pdf?src-supplier=Future+Electronics; ComponentLink8URL: https://datasheet.octopart.com:443/SM02B-SRSS-TB%28LF%29%28SN%29-JST-datasheet-120967.pdf?src-supplier=Future+Electronics; ComponentLink8Description: https://datasheet.octopart.com:443/SM02B-SRSS-TB%28LF%29%28SN%29-JST-datasheet-120967.pdf?src-supplier=Future+Electronics; ComponentLink9URL: https://datasheet.octopart.com:443/SM02B-SRSS-TB-%28LF%29%28SN%29-JST-datasheet-44103209.pdf?src-supplier=TME; ComponentLink9Description: https://datasheet.octopart.com:443/SM02B-SRSS-TB-%28LF%29%28SN%29-JST-datasheet-44103209.pdf?src-supplier=TME; ComponentLink10URL: https://datasheet.octopart.com:443/SM02B-SRSS-TB%28LF%29%28SN%29-JST-datasheet-119911.pdf?src-supplier=DigiKey; ComponentLink10Description: https://datasheet.octopart.com:443/SM02B-SRSS-TB%28LF%29%28SN%29-JST-datasheet-119911.pdf?src-supplier=DigiKey; Supplier 1: RS; Supplier Part Number 1: 5151490P
footprint FP-SM02B-SRSS-TB_LF_SN-MFG
pins: 1, 2, MP1, MP2

## SM03B-SRSS-TB(LF)(SN)
designator P?
Male Header, Pitch 1 mm, 1 x 3 Position, Height 2.9 mm, -25 to 85 degC, RoHS, Tape and Reel; Manufacturer: JST; Pitch: 1mm; Style/Orientation: RightAngleHeader/Plug; No of Positions: 3; Package Description: Male Header, Pitch 1 mm, 1 x 3 Position, Height 2.9 mm; Manufacturer URL: http://www.jst.com/home2.html; Package Reference: SM03B-SRSS-TB; Type: ShroudedHeader; Termination: Crimp; Mounting Technology: SurfaceMount; Datasheet Version: 11/2010; Datasheet URL: https://datasheet.ciiva.com/26894/getdatasheetpartid-708885-26894671.pdf; Supplier 1: Mouser; Supplier Part Number 1: 306-SM03BSRSSTBLFSNP
footprint JST-SM03B-SRSS-TB_V (SMD, 3-Leads, Body 5x4.25mm, Pitch 1mm)
pins: 1, 2, 3, MP1, MP2

## SM12B-SRSS-TB-(LF)(SN)
designator P?, comment SM12B-SRSS-TB
JST SH Series, 1mm Pitch 12 Way 1 Row Right Angle PCB Header, Solder Termination, 1A; Manufacturer Part Number: SM12B-SRSS-TB-(LF)(SN); Number of Contacts: 12; Voltage Rating: 50V; Supplier 1: RSComponents; Supplier Part Number 1: 5022673; Manufacturer: JST; RoHS: Yes; Category: Uncategorized; Stock 1: 7320; Pricing 1: 5=1.26800, 125=0.96600, 500=0.78400, 2500=0.70200, 5000=0.66900 (USD); Mount: Termination; Contact Material: Copper Alloy; Termination: Solder; Number of Rows: 1; Orientation: Right Angle; Current Rating: 1A; Pitch: 1mm; ComponentLink1URL: https://datasheet.ciiva.com/11752/0900766b8063507b-11752070.pdf?src-supplier=RSComponents; ComponentLink1Description: https://datasheet.ciiva.com/11752/0900766b8063507b-11752070.pdf?src-supplier=RSComponents
pins: 1, 2, 3, 4, 5, 6, 7, 8, 9, 10, 11, 12

## SSQ-106-23-F-S
designator P?
Headers & Wire Housings Tiger Buy Socket Strip with Square Tails, 0.100 Pitch; Manufacturer: Samtec; Gender: Receptacle; Number of Contacts: 6; Pitch: 2.54mm; Supplier: Digikey; Supplier Part Number: SSQ-106-23-F-S-ND; Manufacturer Part Number: SSQ-106-23-F-S; RoHS: Yes; Category: Headers and Wire Housings; Stock: 84; Pricing: 1=1.54, 50=1.2, 100=0.97, 500=0.82, 1000=0.775 (USD); Mounting Technology: Through Hole; Contact Plating: Gold; Contact Material: Bronze; Packaging: Bulk; Number of Rows: 1; Termination: Solder; Series: SSQ; Radiation Hardening: No; Lead Free: Lead Free; RoHS Compliant: Yes; Reach SVHC Compliant: No; ComponentLink1URL: ftp://ftp.samtec.com/webfiles/PDF/SSQ_TH.PDF?src-supplier=Avnet; ComponentLink1Description: ftp://ftp.samtec.com/webfiles/PDF/SSQ_TH.PDF?src-supplier=Avnet; Supplier 1: Digikey; Supplier Part Number 1: SSQ-106-23-F-S-ND
footprint FP-SSQ-106-23-F-S-MFG
pins: 1, 2, 3, 4, 5, 6

## SSQ-108-23-F-S
designator P?
Headers & Wire Housings Tiger Buy Socket Strip with Square Tails, 0.100 Pitch; Manufacturer: Samtec; Supplier: Digikey; Supplier Part Number: SAM10007-ND; Manufacturer Part Number: SSQ-108-23-F-S; RoHS: Yes; Category: Headers and Wire Housings; Stock: 16; Pricing: 1=2.06, 50=1.6, 100=1.29, 500=1.1, 1000=1.025 (USD); ComponentLink1URL: http://www.farnell.com/datasheets/2048305.pdf?src-supplier=Farnell; ComponentLink1Description: http://www.farnell.com/datasheets/2048305.pdf?src-supplier=Farnell; ComponentLink2URL: https://datasheet.octopart.com/SSQ-108-23-F-S-Samtec-datasheet-44409674.pdf?src-supplier=Farnell; ComponentLink2Description: https://datasheet.octopart.com/SSQ-108-23-F-S-Samtec-datasheet-44409674.pdf?src-supplier=Farnell; ComponentLink3URL: ftp://ftp.samtec.com/webfiles/PDF/SSQ_TH.PDF?src-supplier=Avnet; ComponentLink3Description: ftp://ftp.samtec.com/webfiles/PDF/SSQ_TH.PDF?src-supplier=Avnet; ComponentLink4URL: http://suddendocs.samtec.com/catalog_english/ssq_th.pdf?src-supplier=Digikey; ComponentLink4Description: http://suddendocs.samtec.com/catalog_english/ssq_th.pdf?src-supplier=Digikey; ComponentLink5URL: https://datasheet.octopart.com/SSQ-108-23-F-S-Samtec-datasheet-116536256.pdf?src-supplier=Toby+Electronics; ComponentLink5Description: https://datasheet.octopart.com/SSQ-108-23-F-S-Samtec-datasheet-116536256.pdf?src-supplier=Toby+Electronics; ComponentLink6URL: https://datasheet.octopart.com/SSQ-108-23-F-S-Samtec-datasheet-150873487.pdf?src-supplier=Electro+Sonic; ComponentLink6Description: https://datasheet.octopart.com/SSQ-108-23-F-S-Samtec-datasheet-150873487.pdf?src-supplier=Electro+Sonic; ComponentLink7URL: https://datasheet.octopart.com/SSQ-108-23-F-S-Samtec-datasheet-97291133.pdf?src-supplier=Samtec; ComponentLink7Description: https://datasheet.octopart.com/SSQ-108-23-F-S-Samtec-datasheet-97291133.pdf?src-supplier=Samtec; Supplier 1: Digikey; Supplier Part Number 1: SAM10007-ND
footprint FP-SSQ-108-23-F-S-MFG
pins: 1, 2, 3, 4, 5, 6, 7, 8

## SSQ-110-23-F-S
designator P?
Headers & Wire Housings Tiger Buy Socket Strip with Square Tails, 0.100 Pitch; Manufacturer: Samtec; Supplier: Digikey; Supplier Part Number: SAM11917-ND; Manufacturer Part Number: SSQ-110-23-F-S; RoHS: Yes; Category: Connectors; Stock: 8; Pricing: 1=2.23, 50=1.82, 100=1.54, 500=1.37, 1000=1.2875 (USD); ComponentLink1URL: http://www.farnell.com/datasheets/1680445.pdf?src-supplier=Farnell; ComponentLink1Description: http://www.farnell.com/datasheets/1680445.pdf?src-supplier=Farnell; ComponentLink2URL: http://suddendocs.samtec.com/catalog_english/ssq_th.pdf?src-supplier=Digikey; ComponentLink2Description: http://suddendocs.samtec.com/catalog_english/ssq_th.pdf?src-supplier=Digikey; ComponentLink3URL: http://www.samtec.com/documents/webfiles/pdf/SSQ_TH.PDF?src-supplier=Avnet; ComponentLink3Description: http://www.samtec.com/documents/webfiles/pdf/SSQ_TH.PDF?src-supplier=Avnet; ComponentLink4URL: https://datasheet.octopart.com/SSQ-110-23-F-S-Samtec-datasheet-97291133.pdf?src-supplier=Farnell; ComponentLink4Description: https://datasheet.octopart.com/SSQ-110-23-F-S-Samtec-datasheet-97291133.pdf?src-supplier=Farnell; ComponentLink5URL: https://datasheet.octopart.com/SSQ-110-23-F-S-Samtec-datasheet-86818373.pdf?src-supplier=Sager+Electronics; ComponentLink5Description: https://datasheet.octopart.com/SSQ-110-23-F-S-Samtec-datasheet-86818373.pdf?src-supplier=Sager+Electronics; Supplier 1: Digikey; Supplier Part Number 1: SAM11917-ND
footprint FP-SSQ-110-23-F-S
pins: 1, 2, 3, 4, 5, 6, 7, 8, 9, 10

## STM-Arduino
designator Arduino, comment STM Nucleo  (value not drawn)
footprint STM-Arduino-Connectors
part A text: Power; 1; NC; 2; IOREF; 3; RESET; 4; 3V3; 5; 5V; 6; GND; 7; 8; VIN
part B text: Analog; 1; A0; 2; A1; 3; A2; 4; A3; 5; A4; 6; A5
part C text: Digital 1; 1; RX/D0; IO0; 2; TX/D1; IO1; 3; D2; IO2; 4; PWM/D3; IO3; 5; D4; IO4; 6; PWM/D5; IO5; 7; PWM/D6; IO6; 8; D7; IO7
part D text: Digital 2; 1; D8; IO8; 2; PWM/D9; IO9; 3; PWM/CS/D10; IO10; 4; PWM/MOSI/D11; IO11; 5; MISO/D12; IO12; 6; SCK/D13; IO13; 7; GND; 8; AVDD; AREF; 9; SDA/D14; SDA; 10; SCL/D15; SCL

## TESTPAD
designator TP?  (value not drawn)  (no BOM)
TESTPOINT PIN SMD; Category: Test and Measurement; Type: PC Test Point; Mounting Type: Surface Mount; Color: -
footprint TEST_PAD (TRST PAD with no connection)
pins: 1

## Touch-15Ch-Linear
designator Touch, comment NC
footprint Touch-15Ch-Linear
pins: 1, 2, 3, 4, 5, 6, 7, 8, 9, 10, 11, 12, 13, 14, 15

## UB-MC5BR3-SDWP604-4S-TF
designator J?  (value not drawn)
CONN MICRO USB WATERPROOF; Manufacturer: JST Sales America Inc.; Connector Type: USB - micro B; Number of Contacts: 5; Gender: Receptacle; Number of Ports: 1; Current Rating: 0.5A, 1A, 1.8A; Voltage - Rated: 30VAC/DC; Mating Cycles: 10000; Shielding: Unshielded; Material Flammability Rating: UL94 V-0; Supplier 1: Digi-Key; Supplier Part Number 1: 455-2932-6-ND; Manufacturer Part Number: UB-MC5BR3-SDWP604-4S-TF; RoHS: RoHS Compliant; Category: Connectors, Interconnects; Stock 1: 5874; Pricing 1: 1=2.6, 10=2.494, 25=2.2856, 50=2.1816, 100=2.0777, 250=1.81796, 500=1.76604 (EUR); Packaging: Digi-Reel®; Part Status: Active; Specifications: -; Mounting Type: Surface Mount, Right Angle; Mounting Feature: Horizontal; Termination: Solder; Features: Board Guide, Solder Retention; Ingress Protection: Waterproof; Operating Temperature: -30°C ~ 85°C; Contact Finish: Gold; Shell/Shielding Material: Steel, Stainless; Insulation Color: Black; ComponentLink1URL: http://www.jst-mfg.com/product/pdf/eng/eUB-micro-USB1.pdf; ComponentLink1Description: http://www.jst-mfg.com/product/pdf/eng/eUB-micro-USB1.pdf
footprint UB-MC5BR3-SDWP604-4S (UB connector Micro USB (Waterproof))
pins: 1 P1, 2 P2, 3 P3, 4 P4, 5 P5, 6, 7, 8, 9, 10, 11
text: 5V; D-; D+; ID; G

## ZX62-B-5PA(33)
designator P?
HIROSE(HRS) - ZX62-B-5PA(33) - USB-Steckverbinder, Micro-USB Typ B, USB 2.0, Buchse, 5 -polig, Oberflächenmontage, Rechtwinklig; Number of Contacts: 5; Gender: Receptacle; USB Standard: USB 2.0; Current Rating: 1.8A; Mating Cycles: 10000; Supplier 1: Digi-Key; Supplier Part Number 1: H125270CT-ND; Manufacturer: Hirose; Manufacturer Part Number: ZX62-B-5PA(33); RoHS: Yes; Category: Connectors; Stock 1: 24099; Pricing 1: 1=0.84000, 10=0.79200, 25=0.71280, 50=0.63360, 100=0.60720, 250=0.55440, 500=0.52800, 1000=0.43560 (USD); Mount: Surface Mount,Horizontal; Contact Material: Copper Alloy; Contact Plating: Gold; Packaging: Tape and Reel; Connector Type: USB; Orientation: Right Angle; REACH SVHC: Unknown; Lead Free: Lead Free; ComponentLink1URL: http://www.farnell.com/datasheets/2691174.pdf?src-supplier=Farnell; ComponentLink1Description: http://www.farnell.com/datasheets/2691174.pdf?src-supplier=Farnell; ComponentLink2URL: http://www.farnell.com/datasheets/2691174.pdf?src-supplier=Element14; ComponentLink2Description: http://www.farnell.com/datasheets/2691174.pdf?src-supplier=Element14; ComponentLink3URL: https://www.hirose.com/product/en/download_file/key_name/ZX62-B-5PA%2833%29/category/Specification%20Sheet/doc_file_id/87473/?file_category_id=9&item_id=02420033833&is_series=&src-supplier=Digi-Key; ComponentLink3Description: https://www.hirose.com/product/en/download_file/key_name/ZX62-B-5PA%2833%29/category/Specification%20Sheet/doc_file_id/87473/?file_category_id=9&item_id=02420033833&is_series=&src-supplier=Digi-Key; ComponentLink4URL: http://www.farnell.com/datasheets/2060515.pdf?src-supplier=Element14; ComponentLink4Description: http://www.farnell.com/datasheets/2060515.pdf?src-supplier=Element14; ComponentLink5URL: http://www.farnell.com/datasheets/2691174.pdf?src-supplier=Newark; ComponentLink5Description: http://www.farnell.com/datasheets/2691174.pdf?src-supplier=Newark
footprint HRS_ZX62-B-5PA(33)
pins: 1 P1, 2 P2, 3 P3, 4 P4, 5 P5, SH1, SH2, SH3, SH4, SH5, SH6
text: 5V; D-; D+; ID; G